# EAGLE library part OCTAL_BUS_TRANSCEIVER (library open-ephys)
Texas Instruments 8-bit, dual-supply bus transceiver
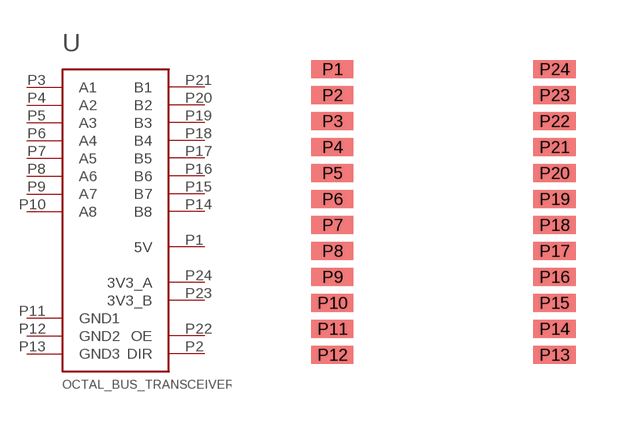
[diagram p5: symbol with the pads of TSSOP-24; footprint TSSOP-24]

Designator prefix -

## OCTAL_BUS_TRANSCEIVER  [TSSOP-24]
P1  5V
P2  DIR
P3  A1
P4  A2
P5  A3
P6  A4
P7  A5
P8  A6
P9  A7
P10  A8
P11  GND1
P12  GND2
P13  GND3
P14  B8
P15  B7
P16  B6
P17  B5
P18  B4
P19  B3
P20  B2
P21  B1
P22  OE
P23  3V3_B
P24  3V3_A

## Footprint TSSOP-24 (pad centres in mm)
smd 1.05 x 0.45: P1 -2.8,3.6; P2 -2.8,2.95; P3 -2.8,2.3; P4 -2.8,1.65; P5 -2.8,1; P6 -2.8,0.35; P7 -2.8,-0.3; P8 -2.8,-0.95; P9 -2.8,-1.6; P10 -2.8,-2.25; P11 -2.8,-2.9; P12 -2.8,-3.55; P13 2.75,-3.55; P14 2.75,-2.9; P15 2.75,-2.25; P16 2.75,-1.6; P17 2.75,-0.95; P18 2.75,-0.3; P19 2.75,0.35; P20 2.75,1; P21 2.75,1.65; P22 2.75,2.3; P23 2.75,2.95; P24 2.75,3.6